# EAGLE library part 750316094 (library WE-GDT)
WE-GDT Gate-Drive-Transformer Characteristics Excellent performances in small package (EP5) 1 or 2 secondary windings 6 different turnsratios 1500VDC insulation test voltage Operating voltage up to 80 V Applications Suitable for signal and power application Designed for gate drive application high efficient SMPS Synchronous Flyback <https://www.we-online.com/components/media/o727400v209%20multi-WE-GDT-76030110x.jpg> Details see: www.we-online.com/en/components/products/WE-GDT <www.we-online.com/catalog/WE-GDT/?utm_source=eagle_model&utm_medium=description_link&utm_campaign=eisos_eagle> Updated by Ella 2024-05-15 2024(C) Wurth Elektronik
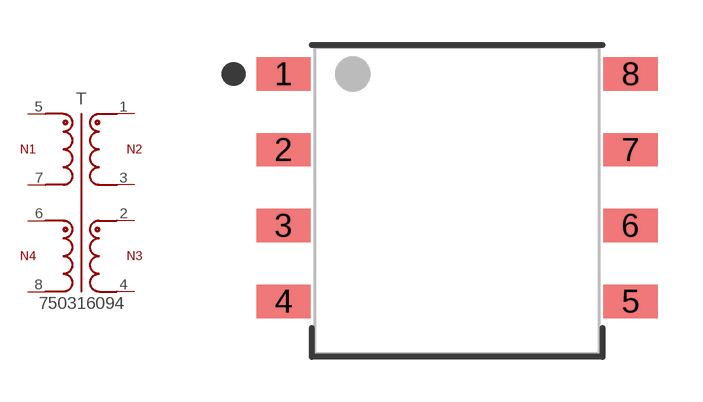
[diagram p0: symbol with the pads of WE-GDT_1210_L10.26W12.98H5.64; footprint WE-GDT_1210_L10.26W12.98H5.64]

Designator prefix T

## 750316094 (CWW: 45pF; DATASHEET-URL: https://www.we-online.com/redexpert/spec/750316094?ae; HEIGHT: 5.64mm; L: 261uH; LENGTH: 10.26mm; LS: 150nH; MOUNT: SMT; N: 1:2.5:2.5; PART-NUMBER: 750316094; RDC1: 148mOhm; SIZE: 1210; VALUE: 750316094; VOLTAGE-TIME: 70uVs; VT: 1500V(AC); WIDTH: 12.98mm)  [WE-GDT_1210_L10.26W12.98H5.64]
1  1  pas
2  2  pas
3  3  pas
4  4  pas
5  5  pas
6  6  pas
7  7  pas
8  8  pas

## Footprint WE-GDT_1210_L10.26W12.98H5.64 (pad centres in mm)
WE-GDT Gate-Drive-Transformer Size 1210, SMT, 8Pins LXWXH=10.26X12.98X5.64mm
smd 1.82 x 1.12: 1 -5.82,3.81; 2 -5.82,1.27; 3 -5.82,-1.27; 4 -5.82,-3.81; 5 5.82,-3.81; 6 5.82,-1.27; 7 5.82,1.27; 8 5.82,3.81